# Altium footprint library WE-PoE++.PcbLib: 23 footprints (part 2 of 2)
Each footprint in its own frame and in the unit in brackets; x right, y up, seen from the top. Pads: shape width x height; smd on the part's side, far side on the other; paste and mask are expansions set on the pad; w line width, h text height; cw(c..) or ccw(c..) is an arc to the next point about the centre after c.
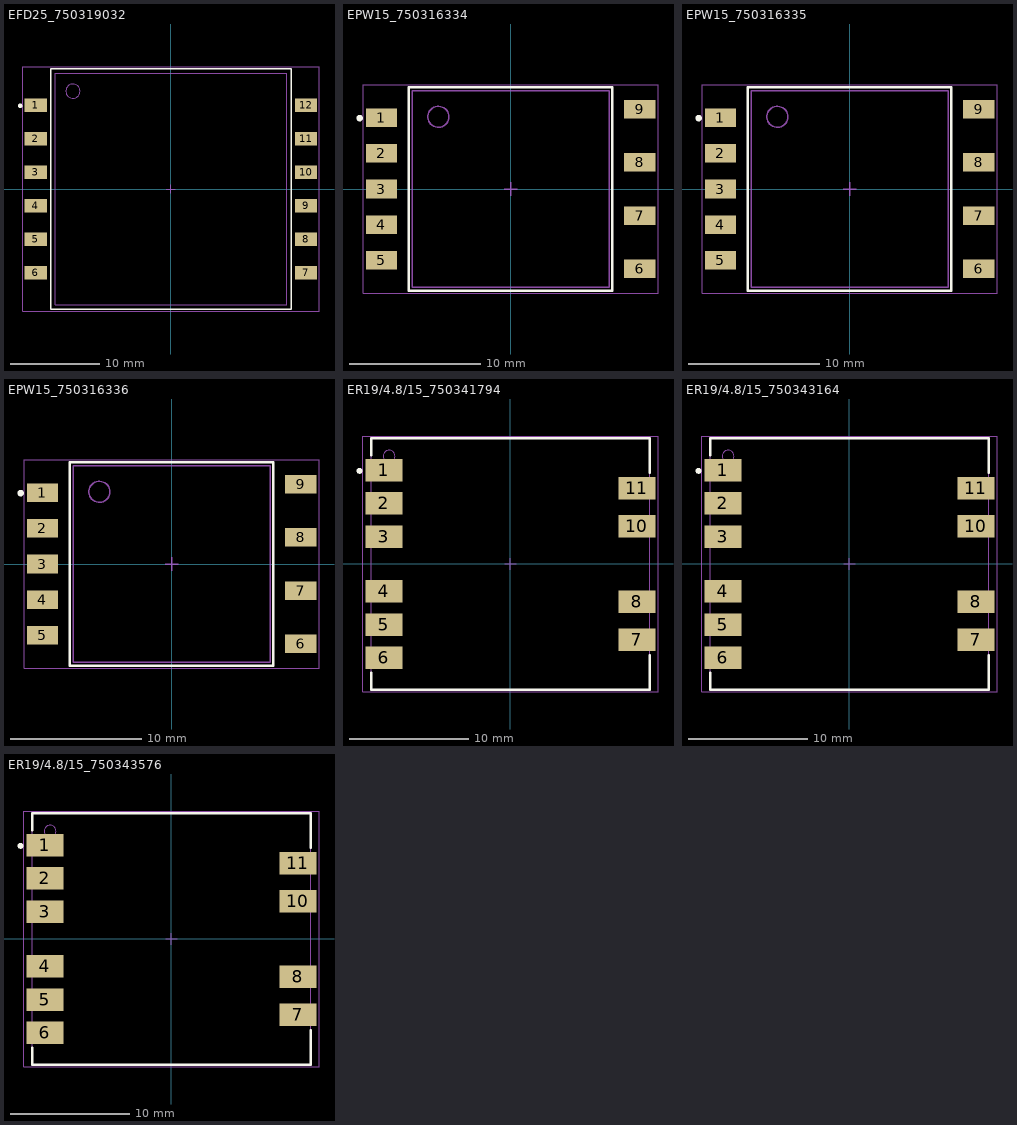
[diagram p1: the footprints below, top view; thin cyan lines are the x and y axes]

## EFD25_750319032 [mm] "Transformer, SMT, body 32.45 x 27.03 mm"
height 13.97
pads (12):
  rect 2.5x1.52 smd: 1(-15.19,9.4) 2(-15.19,5.64) 3(-15.19,1.88) 4(-15.19,-1.88) 5(-15.19,-5.64) 6(-15.19,-9.4) 7(15.19,-9.4) 8(15.19,-5.64) 9(15.19,-1.88) 10(15.19,1.88) 11(15.19,5.64) 12(15.19,9.4)
Top Overlay:
  circle w0.25: c-16.95,9.35 r0.125
  lines w0.2: -13.515,-13.515 -13.515,13.515 13.515,13.515 13.515,-13.515 -13.515,-13.515
Top Assembly:
  circle w0.1: c-11.01,11 r0.8
  lines w0.1: -13.01,-13 -13.01,13 13.01,13 13.01,-13 -13.01,-13
Top Designator:
  text ".Designator" at -3.647,-0.357 h1
Top 3D Body:
  circle w0.1: c-11.01,11 r0.8
  lines w0.1: -13.01,-13 -13.01,13 13.01,13 13.01,-13 -13.01,-13
Top Courtyard:
  lines w0.05: -16.64,-13.715 16.64,-13.715 16.64,13.715 -16.64,13.715 -16.64,-13.715
Top Component Center:
  lines w0.1: -0.5,0 0.5,0 ; 0,-0.5 0,0.5
3D body "070-4476 (rev1).STEP": height 13.28, standoff 0, extent -16.155,-13 16.155,13

## EPW15_750316334 [mm] "Transformer, SMT, body 21.69 x 15.5 mm"
height 13.5
pads (9):
  rect 2.38x1.41 smd: 1(-9.84,5.44) 2(-9.84,2.72) 3(-9.84,0) 4(-9.84,-2.72) 5(-9.84,-5.44) 6(9.84,-6.06) 7(9.84,-2.02) 8(9.84,2.02) 9(9.84,6.06)
Top Overlay:
  circle w0.25: c-11.5,5.4 r0.125
  lines w0.2: -7.75,-7.75 7.75,-7.75 7.75,7.75 -7.75,7.75 -7.75,-7.75
Top Assembly:
  circle w0.1: c-5.5,5.5 r0.8
  lines w0.1: -7.5,-7.5 -7.5,7.5 7.5,7.5 7.5,-7.5 -7.5,-7.5
Top Designator:
  text ".Designator" at -3.647,-0.357 h1
Top 3D Body:
  circle w0.1: c-5.5,5.5 r0.8
  lines w0.1: -7.5,-7.5 -7.5,7.5 7.5,7.5 7.5,-7.5 -7.5,-7.5
Top Courtyard:
  lines w0.05: -11.23,-7.95 11.23,-7.95 11.23,7.95 -11.23,7.95 -11.23,-7.95
Top Component Center:
  lines w0.1: -0.5,0 0.5,0 ; 0,-0.5 0,0.5
3D body "Download_STP_070-6782 (rev1) (1).STEP": height 12.57, standoff 0, extent -10.495,-7.505 10.495,7.5

## EPW15_750316335 [mm] "Transformer, SMT, body 21.69 x 15.5 mm"
height 13.5
pads (9):
  rect 2.38x1.41 smd: 1(-9.84,5.44) 2(-9.84,2.72) 3(-9.84,0) 4(-9.84,-2.72) 5(-9.84,-5.44) 6(9.84,-6.06) 7(9.84,-2.02) 8(9.84,2.02) 9(9.84,6.06)
Top Overlay:
  circle w0.25: c-11.5,5.4 r0.125
  lines w0.2: -7.75,-7.75 -7.75,7.75 7.75,7.75 7.75,-7.75 -7.75,-7.75
Top Assembly:
  circle w0.1: c-5.5,5.5 r0.8
  lines w0.1: -7.5,-7.5 7.5,-7.5 7.5,7.5 -7.5,7.5 -7.5,-7.5
Top Designator:
  text ".Designator" at -3.647,-0.357 h1
Top 3D Body:
  circle w0.1: c-5.5,5.5 r0.8
  lines w0.1: -7.5,-7.5 7.5,-7.5 7.5,7.5 -7.5,7.5 -7.5,-7.5
Top Courtyard:
  lines w0.05: -11.23,-7.95 -11.23,7.95 11.23,7.95 11.23,-7.95 -11.23,-7.95
Top Component Center:
  lines w0.1: -0.5,0 0.5,0 ; 0,-0.5 0,0.5
3D body "Download_STP_070-6782 (rev1) (1).STEP": height 12.57, standoff 0, extent -10.495,-7.505 10.495,7.5

## EPW15_750316336 [mm] "Transformer, SMT, body 21.69 x 15.5 mm"
height 13.5
pads (9):
  rect 2.38x1.41 smd: 1(-9.84,5.44) 2(-9.84,2.72) 3(-9.84,0) 4(-9.84,-2.72) 5(-9.84,-5.44) 6(9.84,-6.06) 7(9.84,-2.02) 8(9.84,2.02) 9(9.84,6.06)
Top Overlay:
  circle w0.25: c-11.5,5.4 r0.125
  lines w0.2: -7.75,-7.75 -7.75,7.75 7.75,7.75 7.75,-7.75 -7.75,-7.75
Top Assembly:
  circle w0.1: c-5.5,5.5 r0.8
  lines w0.1: -7.5,-7.5 7.5,-7.5 7.5,7.5 -7.5,7.5 -7.5,-7.5
Top Designator:
  text ".Designator" at -3.647,-0.357 h1
Top 3D Body:
  circle w0.1: c-5.5,5.5 r0.8
  lines w0.1: -7.5,-7.5 7.5,-7.5 7.5,7.5 -7.5,7.5 -7.5,-7.5
Top Courtyard:
  lines w0.05: -11.23,-7.95 -11.23,7.95 11.23,7.95 11.23,-7.95 -11.23,-7.95
Top Component Center:
  lines w0.1: -0.5,0 0.5,0 ; 0,-0.5 0,0.5
3D body "Download_STP_070-6782 (rev1) (1).STEP": height 12.57, standoff 0, extent -10.495,-7.505 10.495,7.5

## ER19/4.8/15_750341794 [mm] "Transformer, SMT, body 23.37 x 21.08 mm"
height 10.5
pads (10):
  rect 3.13x1.89 smd: 1(-10.615,7.885) 2(-10.615,5.085) 3(-10.615,2.285) 4(-10.615,-2.285) 5(-10.615,-5.085) 6(-10.615,-7.885) 7(10.615,-6.36) 8(10.615,-3.18) 10(10.615,3.18) 11(10.615,6.36)
Top Overlay:
  circle w0.25: c-12.67,7.82 r0.125
  lines w0.2: -11.685,-9.14 -11.685,-10.54 11.685,-10.54 11.685,-7.64 ; -11.685,9.14 -11.685,10.54 11.685,10.54 11.685,7.64
Top Assembly:
  circle w0.1: c-10.185,9.04 r0.5
  lines w0.1: -11.685,-10.54 11.685,-10.54 11.685,10.54 -11.685,10.54 -11.685,-10.54
Top Designator:
  text ".Designator" at -3.647,-0.357 h1
Top 3D Body:
  circle w0.1: c-10.185,9.04 r0.5
  lines w0.1: -11.685,-10.54 11.685,-10.54 11.685,10.54 -11.685,10.54 -11.685,-10.54
Top Courtyard:
  lines w0.05: -12.38,-10.74 12.38,-10.74 12.38,10.74 -12.38,10.74 -12.38,-10.74
Top Component Center:
  lines w0.1: -0.5,0 0.5,0 ; 0,-0.5 0,0.5
3D body "ER19_4-8_15_1411 PCB.STEP": height 10.26, standoff 0.06, extent -11.66,-9.816 11.66,9.9

## ER19/4.8/15_750343164 [mm] "Transformer, SMT, body 23.37 x 21.08 mm"
height 10.5
pads (10):
  rect 3.13x1.89 smd: 1(-10.615,7.885) 2(-10.615,5.085) 3(-10.615,2.285) 4(-10.615,-2.285) 5(-10.615,-5.085) 6(-10.615,-7.885) 7(10.615,-6.36) 8(10.615,-3.18) 10(10.615,3.18) 11(10.615,6.36)
Top Overlay:
  circle w0.25: c-12.67,7.82 r0.125
  lines w0.2: -11.685,-9.14 -11.685,-10.54 11.685,-10.54 11.685,-7.64 ; -11.685,9.14 -11.685,10.54 11.685,10.54 11.685,7.64
Top Assembly:
  circle w0.1: c-10.185,9.04 r0.5
  lines w0.1: -11.685,-10.54 11.685,-10.54 11.685,10.54 -11.685,10.54 -11.685,-10.54
Top Designator:
  text ".Designator" at -3.647,-0.357 h1
Top 3D Body:
  circle w0.1: c-10.185,9.04 r0.5
  lines w0.1: -11.685,-10.54 11.685,-10.54 11.685,10.54 -11.685,10.54 -11.685,-10.54
Top Courtyard:
  lines w0.05: -12.38,-10.74 12.38,-10.74 12.38,10.74 -12.38,10.74 -12.38,-10.74
Top Component Center:
  lines w0.1: -0.5,0 0.5,0 ; 0,-0.5 0,0.5
3D body "ER19_4-8_15_1411 PCB.STEP": height 10.26, standoff 0.06, extent -11.66,-9.816 11.66,9.9

## ER19/4.8/15_750343576 [mm] "Transformer, SMT, body 23.37 x 21.08 mm"
height 10.5
pads (10):
  rect 3.13x1.89 smd: 1(-10.615,7.885) 2(-10.615,5.085) 3(-10.615,2.285) 4(-10.615,-2.285) 5(-10.615,-5.085) 6(-10.615,-7.885) 7(10.615,-6.36) 8(10.615,-3.18) 10(10.615,3.18) 11(10.615,6.36)
Top Overlay:
  circle w0.25: c-12.67,7.82 r0.125
  lines w0.2: -11.685,-9.14 -11.685,-10.54 11.685,-10.54 11.685,-7.64 ; -11.685,9.14 -11.685,10.54 11.685,10.54 11.685,7.64
Top Assembly:
  circle w0.1: c-10.185,9.04 r0.5
  lines w0.1: -11.685,-10.54 -11.685,10.54 11.685,10.54 11.685,-10.54 -11.685,-10.54
Top Designator:
  text ".Designator" at -3.647,-0.357 h1
Top 3D Body:
  circle w0.1: c-10.185,9.04 r0.5
  lines w0.1: -11.685,-10.54 -11.685,10.54 11.685,10.54 11.685,-10.54 -11.685,-10.54
Top Courtyard:
  lines w0.05: -12.38,-10.74 -12.38,10.74 12.38,10.74 12.38,-10.74 -12.38,-10.74
Top Component Center:
  lines w0.1: -0.5,0 0.5,0 ; 0,-0.5 0,0.5
3D body "ER19_4-8_15_1411 PCB.STEP": height 10.26, standoff 0.06, extent -11.66,-9.816 11.66,9.9